# Altium schematic symbol library 613 0xx 118 21.SchLib: 24 symbols
Pins are listed as number, name and electrical type; pins without a type are passive.

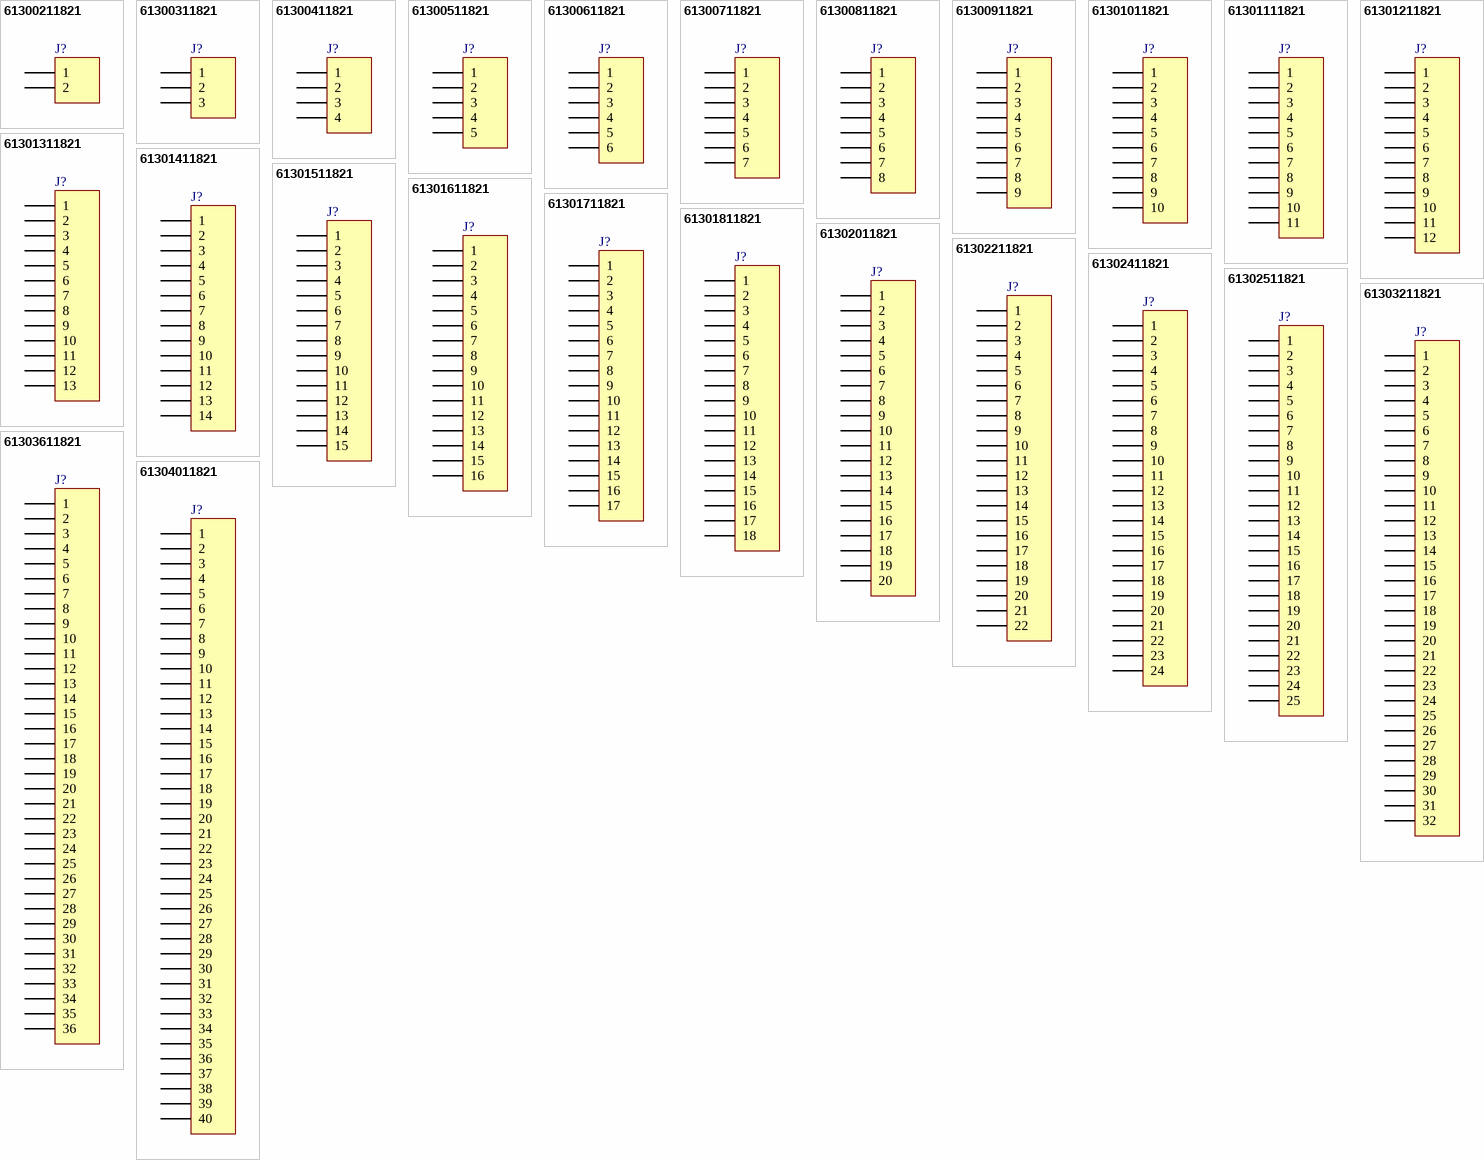
[diagram p0: symbols 61300211821 to 61304011821]

## 61300211821
designator J?, comment 02p  (value not drawn)
WR-PHD 2.54 mm Socket Header, 02p; PartNumber: 61300211821; PublishedDate: July 2016; Publisher: Wurth Elektronik; ComponentLink1Description: Manufacturer; ComponentLink1URL: http://www.we-online.de; ComponentLink2Description: Datasheet; ComponentLink2URL: http://katalog.we-online.de/em/datasheet/6130xx11821.pdf; PinNumber: 02p
footprint 61300211821
pins: 1, 2

## 61300311821
designator J?, comment 03p  (value not drawn)
WR-PHD 2.54 mm Socket Header, 03p; PartNumber: 61300311821; PublishedDate: July 2016; Publisher: Wurth Elektronik; ComponentLink1Description: Manufacturer; ComponentLink1URL: http://www.we-online.de; ComponentLink2Description: Datasheet; ComponentLink2URL: http://katalog.we-online.de/em/datasheet/6130xx11821.pdf; PinNumber: 03p
footprint 61300311821
pins: 1, 2, 3

## 61300411821
designator J?, comment 04p  (value not drawn)
WR-PHD 2.54 mm Socket Header, 04p; PartNumber: 61300411821; PublishedDate: July 2016; Publisher: Wurth Elektronik; ComponentLink1Description: Manufacturer; ComponentLink1URL: http://www.we-online.de; ComponentLink2Description: Datasheet; ComponentLink2URL: http://katalog.we-online.de/em/datasheet/6130xx11821.pdf; PinNumber: 04p
footprint 61300411821
pins: 1, 2, 3, 4

## 61300511821
designator J?, comment 05p  (value not drawn)
WR-PHD 2.54 mm Socket Header, 05p; PartNumber: 61300511821; PublishedDate: July 2016; Publisher: Wurth Elektronik; ComponentLink1Description: Manufacturer; ComponentLink1URL: http://www.we-online.de; ComponentLink2Description: Datasheet; ComponentLink2URL: http://katalog.we-online.de/em/datasheet/6130xx11821.pdf; PinNumber: 05p
footprint 61300511821
pins: 1, 2, 3, 4, 5

## 61300611821
designator J?, comment 06p  (value not drawn)
WR-PHD 2.54 mm Socket Header, 06p; PartNumber: 61300611821; PublishedDate: July 2016; Publisher: Wurth Elektronik; ComponentLink1Description: Manufacturer; ComponentLink1URL: http://www.we-online.de; ComponentLink2Description: Datasheet; ComponentLink2URL: http://katalog.we-online.de/em/datasheet/6130xx11821.pdf; PinNumber: 06p
footprint 61300611821
pins: 1, 2, 3, 4, 5, 6

## 61300711821
designator J?, comment 07p  (value not drawn)
WR-PHD 2.54 mm Socket Header, 07p; PartNumber: 61300711821; PublishedDate: July 2016; Publisher: Wurth Elektronik; ComponentLink1Description: Manufacturer; ComponentLink1URL: http://www.we-online.de; ComponentLink2Description: Datasheet; ComponentLink2URL: http://katalog.we-online.de/em/datasheet/6130xx11821.pdf; PinNumber: 07p
footprint 61300711821
pins: 1, 2, 3, 4, 5, 6, 7

## 61300811821
designator J?, comment 08p  (value not drawn)
WR-PHD 2.54 mm Socket Header, 08p; PartNumber: 61300811821; PublishedDate: July 2016; Publisher: Wurth Elektronik; ComponentLink1Description: Manufacturer; ComponentLink1URL: http://www.we-online.de; ComponentLink2Description: Datasheet; ComponentLink2URL: http://katalog.we-online.de/em/datasheet/6130xx11821.pdf; PinNumber: 08p
footprint 61300811821
pins: 1, 2, 3, 4, 5, 6, 7, 8

## 61300911821
designator J?, comment 09p  (value not drawn)
WR-PHD 2.54 mm Socket Header, 09p; PartNumber: 61300911821; PublishedDate: July 2016; Publisher: Wurth Elektronik; ComponentLink1Description: Manufacturer; ComponentLink1URL: http://www.we-online.de; ComponentLink2Description: Datasheet; ComponentLink2URL: http://katalog.we-online.de/em/datasheet/6130xx11821.pdf; PinNumber: 09p
footprint 61300911821
pins: 1, 2, 3, 4, 5, 6, 7, 8, 9

## 61301011821
designator J?, comment 10p  (value not drawn)
WR-PHD 2.54 mm Socket Header, 10p; PartNumber: 61301011821; PublishedDate: July 2016; Publisher: Wurth Elektronik; ComponentLink1Description: Manufacturer; ComponentLink1URL: http://www.we-online.de; ComponentLink2Description: Datasheet; ComponentLink2URL: http://katalog.we-online.de/em/datasheet/6130xx11821.pdf; PinNumber: 10p
footprint 61301011821
pins: 1, 2, 3, 4, 5, 6, 7, 8, 9, 10

## 61301111821
designator J?, comment 11p  (value not drawn)
WR-PHD 2.54 mm Socket Header, 11p; PartNumber: 61301111821; PublishedDate: July 2016; Publisher: Wurth Elektronik; ComponentLink1Description: Manufacturer; ComponentLink1URL: http://www.we-online.de; ComponentLink2Description: Datasheet; ComponentLink2URL: http://katalog.we-online.de/em/datasheet/6130xx11821.pdf; PinNumber: 11p
footprint 61301111821
pins: 1, 2, 3, 4, 5, 6, 7, 8, 9, 10, 11

## 61301211821
designator J?, comment 12p  (value not drawn)
WR-PHD 2.54 mm Socket Header, 12p; PartNumber: 61301211821; PublishedDate: July 2016; Publisher: Wurth Elektronik; ComponentLink1Description: Manufacturer; ComponentLink1URL: http://www.we-online.de; ComponentLink2Description: Datasheet; ComponentLink2URL: http://katalog.we-online.de/em/datasheet/6130xx11821.pdf; PinNumber: 12p
footprint 61301211821
pins: 1, 2, 3, 4, 5, 6, 7, 8, 9, 10, 11, 12

## 61301311821
designator J?, comment 13p  (value not drawn)
WR-PHD 2.54 mm Socket Header, 13p; PartNumber: 61301311821; PublishedDate: July 2016; Publisher: Wurth Elektronik; ComponentLink1Description: Manufacturer; ComponentLink1URL: http://www.we-online.de; ComponentLink2Description: Datasheet; ComponentLink2URL: http://katalog.we-online.de/em/datasheet/6130xx11821.pdf; PinNumber: 13p
footprint 61301311821
pins: 1, 2, 3, 4, 5, 6, 7, 8, 9, 10, 11, 12, 13

## 61301411821
designator J?, comment 14p  (value not drawn)
WR-PHD 2.54 mm Socket Header, 14p; PartNumber: 61301411821; PublishedDate: July 2016; Publisher: Wurth Elektronik; ComponentLink1Description: Manufacturer; ComponentLink1URL: http://www.we-online.de; ComponentLink2Description: Datasheet; ComponentLink2URL: http://katalog.we-online.de/em/datasheet/6130xx11821.pdf; PinNumber: 14p
footprint 61301411821
pins: 1, 2, 3, 4, 5, 6, 7, 8, 9, 10, 11, 12, 13, 14

## 61301511821
designator J?, comment 15p  (value not drawn)
WR-PHD 2.54 mm Socket Header, 15p; PartNumber: 61301511821; PublishedDate: July 2016; Publisher: Wurth Elektronik; ComponentLink1Description: Manufacturer; ComponentLink1URL: http://www.we-online.de; ComponentLink2Description: Datasheet; ComponentLink2URL: http://katalog.we-online.de/em/datasheet/6130xx11821.pdf; PinNumber: 15p
footprint 61301511821
pins: 1, 2, 3, 4, 5, 6, 7, 8, 9, 10, 11, 12, 13, 14, 15

## 61301611821
designator J?, comment 16p  (value not drawn)
WR-PHD 2.54 mm Socket Header, 16p; PartNumber: 61301611821; PublishedDate: July 2016; Publisher: Wurth Elektronik; ComponentLink1Description: Manufacturer; ComponentLink1URL: http://www.we-online.de; ComponentLink2Description: Datasheet; ComponentLink2URL: http://katalog.we-online.de/em/datasheet/6130xx11821.pdf; PinNumber: 16p
footprint 61301611821
pins: 1, 2, 3, 4, 5, 6, 7, 8, 9, 10, 11, 12, 13, 14, 15, 16

## 61301711821
designator J?, comment 17p  (value not drawn)
WR-PHD 2.54 mm Socket Header, 17p; PartNumber: 61301711821; PublishedDate: July 2016; Publisher: Wurth Elektronik; ComponentLink1Description: Manufacturer; ComponentLink1URL: http://www.we-online.de; ComponentLink2Description: Datasheet; ComponentLink2URL: http://katalog.we-online.de/em/datasheet/6130xx11821.pdf; PinNumber: 17p
footprint 61301711821
pins: 1, 2, 3, 4, 5, 6, 7, 8, 9, 10, 11, 12, 13, 14, 15, 16, 17

## 61301811821
designator J?, comment 18p  (value not drawn)
WR-PHD 2.54 mm Socket Header, 18p; PartNumber: 61301811821; PublishedDate: July 2016; Publisher: Wurth Elektronik; ComponentLink1Description: Manufacturer; ComponentLink1URL: http://www.we-online.de; ComponentLink2Description: Datasheet; ComponentLink2URL: http://katalog.we-online.de/em/datasheet/6130xx11821.pdf; PinNumber: 18p
footprint 61301811821
pins: 1, 2, 3, 4, 5, 6, 7, 8, 9, 10, 11, 12, 13, 14, 15, 16, 17, 18

## 61302011821
designator J?, comment 20p  (value not drawn)
WR-PHD 2.54 mm Socket Header, 20p; PartNumber: 61302011821; PublishedDate: July 2016; Publisher: Wurth Elektronik; ComponentLink1Description: Manufacturer; ComponentLink1URL: http://www.we-online.de; ComponentLink2Description: Datasheet; ComponentLink2URL: http://katalog.we-online.de/em/datasheet/6130xx11821.pdf; PinNumber: 20p
footprint 61302011821
pins: 1, 2, 3, 4, 5, 6, 7, 8, 9, 10, 11, 12, 13, 14, 15, 16, 17, 18, 19, 20

## 61302211821
designator J?, comment 22p  (value not drawn)
WR-PHD 2.54 mm Socket Header, 22p; PartNumber: 61302211821; PublishedDate: July 2016; Publisher: Wurth Elektronik; ComponentLink1Description: Manufacturer; ComponentLink1URL: http://www.we-online.de; ComponentLink2Description: Datasheet; ComponentLink2URL: http://katalog.we-online.de/em/datasheet/6130xx11821.pdf; PinNumber: 22p
footprint 61302211821
pins: 1, 2, 3, 4, 5, 6, 7, 8, 9, 10, 11, 12, 13, 14, 15, 16, 17, 18, 19, 20, 21, 22

## 61302411821
designator J?, comment 24p  (value not drawn)
WR-PHD 2.54 mm Socket Header, 24p; PartNumber: 61302411821; PublishedDate: July 2016; Publisher: Wurth Elektronik; ComponentLink1Description: Manufacturer; ComponentLink1URL: http://www.we-online.de; ComponentLink2Description: Datasheet; ComponentLink2URL: http://katalog.we-online.de/em/datasheet/6130xx11821.pdf; PinNumber: 24p
footprint 61302411821
pins: 1, 2, 3, 4, 5, 6, 7, 8, 9, 10, 11, 12, 13, 14, 15, 16, 17, 18, 19, 20, 21, 22, 23, 24

## 61302511821
designator J?, comment 25p  (value not drawn)
WR-PHD 2.54 mm Socket Header, 25p; PartNumber: 61302511821; PublishedDate: July 2016; Publisher: Wurth Elektronik; ComponentLink1Description: Manufacturer; ComponentLink1URL: http://www.we-online.de; ComponentLink2Description: Datasheet; ComponentLink2URL: http://katalog.we-online.de/em/datasheet/6130xx11821.pdf; PinNumber: 25p
footprint 61302511821
pins: 1, 2, 3, 4, 5, 6, 7, 8, 9, 10, 11, 12, 13, 14, 15, 16, 17, 18, 19, 20, 21, 22, 23, 24, 25

## 61303211821
designator J?, comment 32p  (value not drawn)
WR-PHD 2.54 mm Socket Header, 32p; PartNumber: 61303211821; PublishedDate: July 2016; Publisher: Wurth Elektronik; ComponentLink1Description: Manufacturer; ComponentLink1URL: http://www.we-online.de; ComponentLink2Description: Datasheet; ComponentLink2URL: http://katalog.we-online.de/em/datasheet/6130xx11821.pdf; PinNumber: 32p
footprint 61303211821
pins: 1, 2, 3, 4, 5, 6, 7, 8, 9, 10, 11, 12, 13, 14, 15, 16, 17, 18, 19, 20, 21, 22, 23, 24, 25, 26, 27, 28, 29, 30, 31, 32

## 61303611821
designator J?, comment 36p  (value not drawn)
WR-PHD 2.54 mm Socket Header, 36p; PartNumber: 61303611821; PublishedDate: July 2016; Publisher: Wurth Elektronik; ComponentLink1Description: Manufacturer; ComponentLink1URL: http://www.we-online.de; ComponentLink2Description: Datasheet; ComponentLink2URL: http://katalog.we-online.de/em/datasheet/6130xx11821.pdf; PinNumber: 36p
footprint 61303611821
pins: 1, 2, 3, 4, 5, 6, 7, 8, 9, 10, 11, 12, 13, 14, 15, 16, 17, 18, 19, 20, 21, 22, 23, 24, 25, 26, 27, 28, 29, 30, 31, 32, 33, 34, 35, 36

## 61304011821
designator J?, comment 40p  (value not drawn)
WR-PHD 2.54 mm Socket Header, 40p; PartNumber: 61304011821; PublishedDate: July 2016; Publisher: Wurth Elektronik; ComponentLink1Description: Manufacturer; ComponentLink1URL: http://www.we-online.de; ComponentLink2Description: Datasheet; ComponentLink2URL: http://katalog.we-online.de/em/datasheet/6130xx11821.pdf; PinNumber: 40p
footprint 61304011821
pins: 1, 2, 3, 4, 5, 6, 7, 8, 9, 10, 11, 12, 13, 14, 15, 16, 17, 18, 19, 20, 21, 22, 23, 24, 25, 26, 27, 28, 29, 30, 31, 32, 33, 34, 35, 36, 37, 38, 39, 40